# EAGLE library part LTC2370 (library SpectroLib)
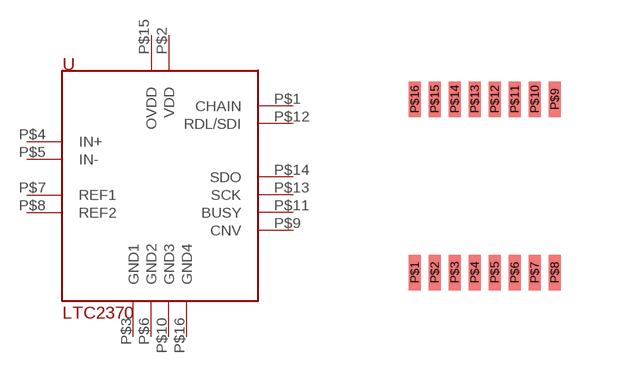
[diagram p1: symbol with the pads of MSOP-16; footprint MSOP-16]

Designator prefix -

## LTC2370  [MSOP-16]
P$1  CHAIN
P$2  VDD
P$3  GND1
P$4  IN+
P$5  IN-
P$6  GND2
P$7  REF1
P$8  REF2
P$9  CNV
P$10  GND3
P$11  BUSY
P$12  RDL/SDI
P$13  SCK
P$14  SDO
P$15  OVDD
P$16  GND4

## Footprint MSOP-16 (pad centres in mm)
smd 0.305 x 0.889: P$1 0,-4.34; P$2 0.5,-4.34; P$3 1,-4.34; P$4 1.5,-4.34; P$5 2,-4.34; P$6 2.5,-4.34; P$7 3,-4.34; P$8 3.5,-4.34; P$9 3.5,0; P$10 3,0; P$11 2.5,0; P$12 2,0; P$13 1.5,0; P$14 1,0; P$15 0.5,0; P$16 0,0